# Altium footprint library PQ2614BHA-150K.PcbLib: 1 footprints
Each footprint in its own frame and in the unit in brackets; x right, y up, seen from the top. Pads: shape width x height; smd on the part's side, far side on the other; paste and mask are expansions set on the pad; w line width, h text height; cw(c..) or ccw(c..) is an arc to the next point about the centre after c.
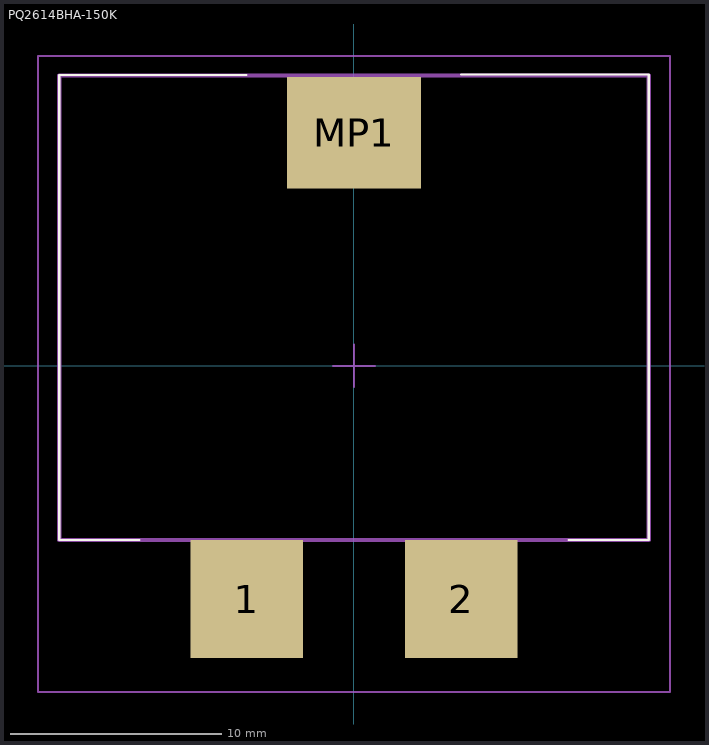
[diagram p0: the footprint, top view; thin cyan lines are the x and y axes]

## PQ2614BHA-150K [mm] "Inductor 15uF"
pads (3):
  rect 5.33x5.59 smd: 1(-5.075,-11.037) 2(5.075,-11.037)
  rect 6.35x5.28 smd: MP1(0,11.038)
Top Overlay:
  lines w0.1: -10.16,-8.242 -13.95,-8.247 -13.95,13.773 -5.08,13.773 ; 5.075,13.801 13.95,13.801 13.95,-8.242 10.16,-8.242
Mechanical 13:
  lines w0.2: -13.95,-8.242 13.95,-8.242 13.95,13.746 -13.95,13.746 -13.95,-8.242
Mechanical 15:
  lines w0.1: -1,0 1,0 0,0 ; 0,0 0,-1 0,1 0,0 ; -14.95,-15.442 14.95,-15.442 14.95,14.678 -14.95,14.678 -14.95,-15.442
3D body "PQ2614BHA.stp": height 15, standoff -0.1, extent -13.4,-13.65 13.4,13.525